# EAGLE library part ATMEGA*8 (library ic-ATMEL)
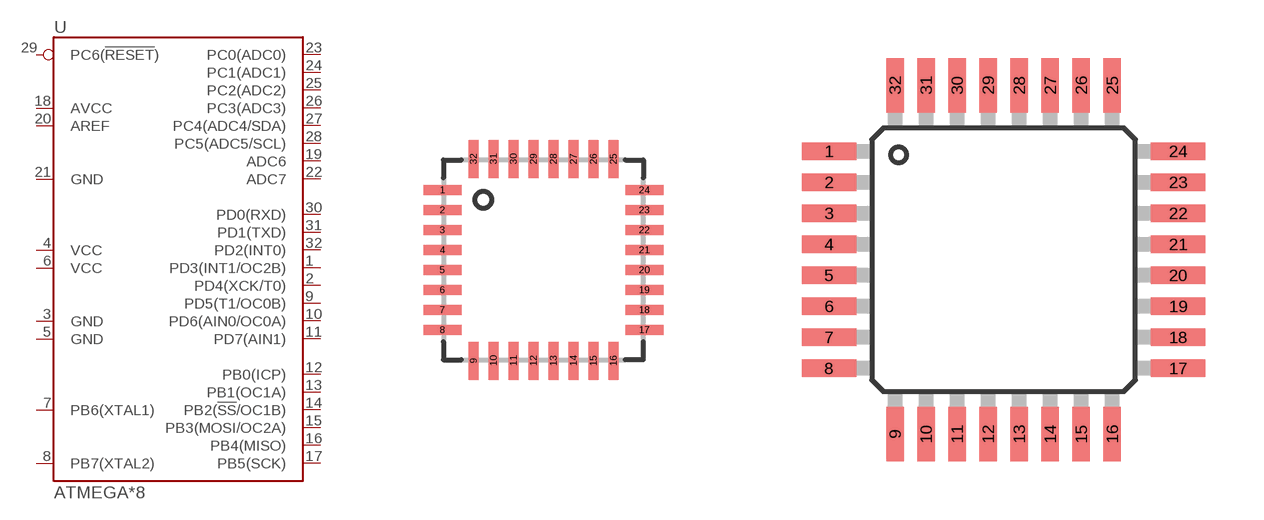
[diagram p0: symbol with the pads of QFN32-0.5-NOPAD; footprints QFN32-0.5-NOPAD, QFP32-0.8]

Designator prefix U

## ATMEGA168-MU, ATMEGA328-MU, ATMEGA48-MU, ATMEGA88-MU  [QFN32-0.5-NOPAD]
1  PD3(INT1/OC2B)
2  PD4(XCK/T0)
3  GND
4  VCC
5  GND
6  VCC
7  PB6(XTAL1)
8  PB7(XTAL2)
9  PD5(T1/OC0B)
10  PD6(AIN0/OC0A)
11  PD7(AIN1)
12  PB0(ICP)
13  PB1(OC1A)
14  PB2(!SS!/OC1B)
15  PB3(MOSI/OC2A)
16  PB4(MISO)
17  PB5(SCK)
18  AVCC
19  ADC6
20  AREF
21  GND
22  ADC7
23  PC0(ADC0)
24  PC1(ADC1)
25  PC2(ADC2)
26  PC3(ADC3)
27  PC4(ADC4/SDA)
28  PC5(ADC5/SCL)
29  PC6(!RESET!)
30  PD0(RXD)
31  PD1(TXD)
32  PD2(INT0)

## ATMEGA328-AU, ATMEGA48-AU  [QFP32-0.8]
Pads as for QFN32-0.5-NOPAD

## Footprint QFN32-0.5-NOPAD (pad centres in mm)
smd 0.95 x 0.25: 1 -2.525,1.75; 2 -2.525,1.25; 3 -2.525,0.75; 4 -2.525,0.25; 5 -2.525,-0.25; 6 -2.525,-0.75; 7 -2.525,-1.25; 8 -2.525,-1.75; 17 2.525,-1.75; 18 2.525,-1.25; 19 2.525,-0.75; 20 2.525,-0.25; 21 2.525,0.25; 22 2.525,0.75; 23 2.525,1.25; 24 2.525,1.75
smd 0.25 x 0.95: 9 -1.75,-2.525; 10 -1.25,-2.525; 11 -0.75,-2.525; 12 -0.25,-2.525; 13 0.25,-2.525; 14 0.75,-2.525; 15 1.25,-2.525; 16 1.75,-2.525; 25 1.75,2.525; 26 1.25,2.525; 27 0.75,2.525; 28 0.25,2.525; 29 -0.25,2.525; 30 -0.75,2.525; 31 -1.25,2.525; 32 -1.75,2.525

## Footprint QFP32-0.8 (pad centres in mm)
smd 1.4 x 0.45: 1 -4.5,2.8; 2 -4.5,2; 3 -4.5,1.2; 4 -4.5,0.4; 5 -4.5,-0.4; 6 -4.5,-1.2; 7 -4.5,-2; 8 -4.5,-2.8; 17 4.5,-2.8; 18 4.5,-2; 19 4.5,-1.2; 20 4.5,-0.4; 21 4.5,0.4; 22 4.5,1.2; 23 4.5,2; 24 4.5,2.8
smd 0.45 x 1.4: 9 -2.8,-4.5; 10 -2,-4.5; 11 -1.2,-4.5; 12 -0.4,-4.5; 13 0.4,-4.5; 14 1.2,-4.5; 15 2,-4.5; 16 2.8,-4.5; 25 2.8,4.5; 26 2,4.5; 27 1.2,4.5; 28 0.4,4.5; 29 -0.4,4.5; 30 -1.2,4.5; 31 -2,4.5; 32 -2.8,4.5